# Altium footprint library SSR.PcbLib: 1 footprints
Each footprint in its own frame and in the unit in brackets; x right, y up, seen from the top. Pads: shape width x height; smd on the part's side, far side on the other; paste and mask are expansions set on the pad; w line width, h text height; cw(c..) or ccw(c..) is an arc to the next point about the centre after c.
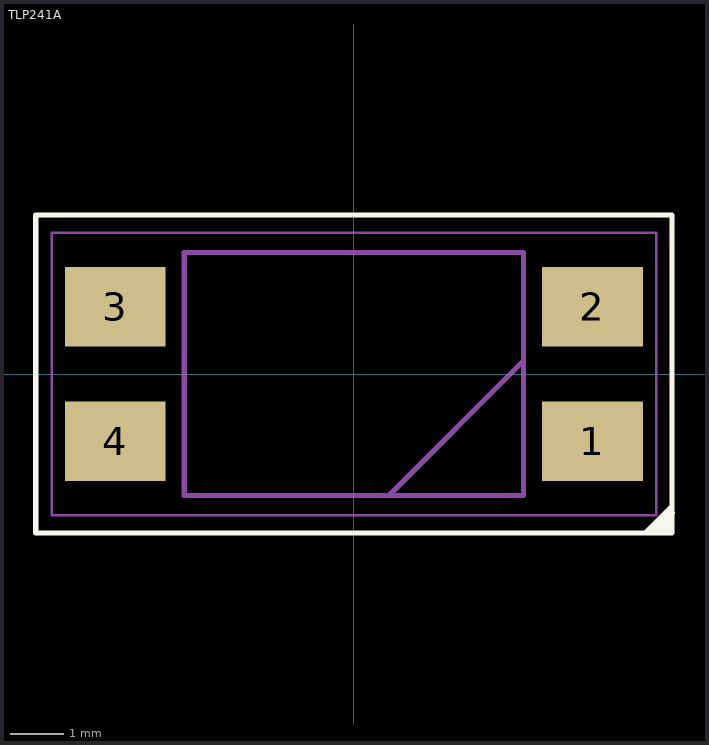
[diagram p0: the footprint, top view; thin cyan lines are the x and y axes]

## TLP241A [mm]
pads (4):
  rect 1.9x1.5 smd: 1(4.5,-1.27) 2(4.5,1.27) 3(-4.5,1.27) 4(-4.5,-1.27)
Top Overlay:
  lines w0.1: 5.943,-2.892 5.928,-2.907 5.928,-2.974 5.988,-2.914 5.988,-2.628 5.996,-2.62 6.003,-2.62 5.815,-2.809 5.74,-2.809 5.762,-2.831 5.785,-2.831 5.928,-2.688 5.943,-2.688 5.852,-2.779 5.852,-2.876 5.74,-2.876 5.724,-2.861 5.724,-2.846 5.92,-2.651 5.92,-2.907 5.928,-2.914 5.586,-2.914 5.5,-3 6,-2.5 ; 6,-2.5 6,-2.5 ; -6,-3 6,-3 6,3 -6,3 -6,-3
Mechanical 13:
  lines w0.1: 0.66,-2.29 3.2,0.25 ; -3.2,-2.29 3.2,-2.29 3.2,2.29 -3.2,2.29 -3.2,-2.29
Mechanical 15:
  lines w0.05: -5.7,-2.665 5.7,-2.665 5.7,2.665 -5.7,2.665 -5.7,-2.665
3D body "TLP241A_TP1,F_O.stp": height 4.25, standoff 0, extent -5,-2.29 5,2.29